# Altium integrated library CR0603AFX-1001EAS.IntLib: 1 symbol
Pins are listed as number, name and electrical type; pins without a type are passive.

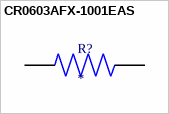
[diagram p0: symbol CR0603AFX-1001EAS]

## CR0603AFX-1001EAS
designator R?
DirenÃ§, AS 0603 1k %1 100mW TC100 ¦ Bourns CR0603AFX-1001EAS; SnapEDA_Link: https://www.snapeda.com/parts/CR0603AFX-1001EAS/Bourns/view-part/?ref=snap; Package: 0603-2 Bourns; Value: *; MF: Bourns; MP: CR0603AFX-1001EAS; Check_prices: https://www.snapeda.com/parts/CR0603AFX-1001EAS/Bourns/view-part/?ref=eda
footprint RESC1608X55N
pins: 1, 2